# Altium schematic symbol library SHT21.SchLib: 1 symbol
Pins are listed as number, name and electrical type; pins without a type are passive.

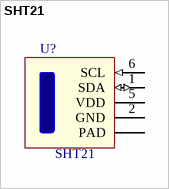
[diagram p0: symbol SHT21]

## SHT21
designator U?
value: SHT21
footprint SHT21 (SON, 6-Leads, Body 3.00x3.00mm, Pitch 1.00mm, Thermal Pad 2.40x1.50mm, IPC Medium Density)
pins: 1 SDA (io), 2 GND (power), 5 VDD (power), 6 SCL (in), 7 PAD (power)